# Altium schematic symbol library DPDT-relay.Schlib: 1 symbol
Pins are listed as number, name and electrical type; pins without a type are passive.

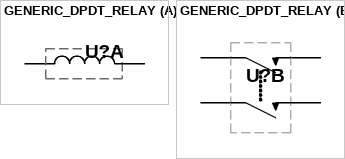
[diagram p0: symbol GENERIC_DPDT_RELAY]

## GENERIC_DPDT_RELAY
designator U?
RELAY GENERAL PURPOSE DPST 5A 5V
part A pins: 1, 8
part B pins: 3, 4, 5, 6